# Altium footprint library Tigershark3D.PcbLib: 54 footprints (part 4 of 4)
Each footprint in its own frame and in the unit in brackets; x right, y up, seen from the top. Pads: shape width x height; smd on the part's side, far side on the other; paste and mask are expansions set on the pad; w line width, h text height; cw(c..) or ccw(c..) is an arc to the next point about the centre after c.
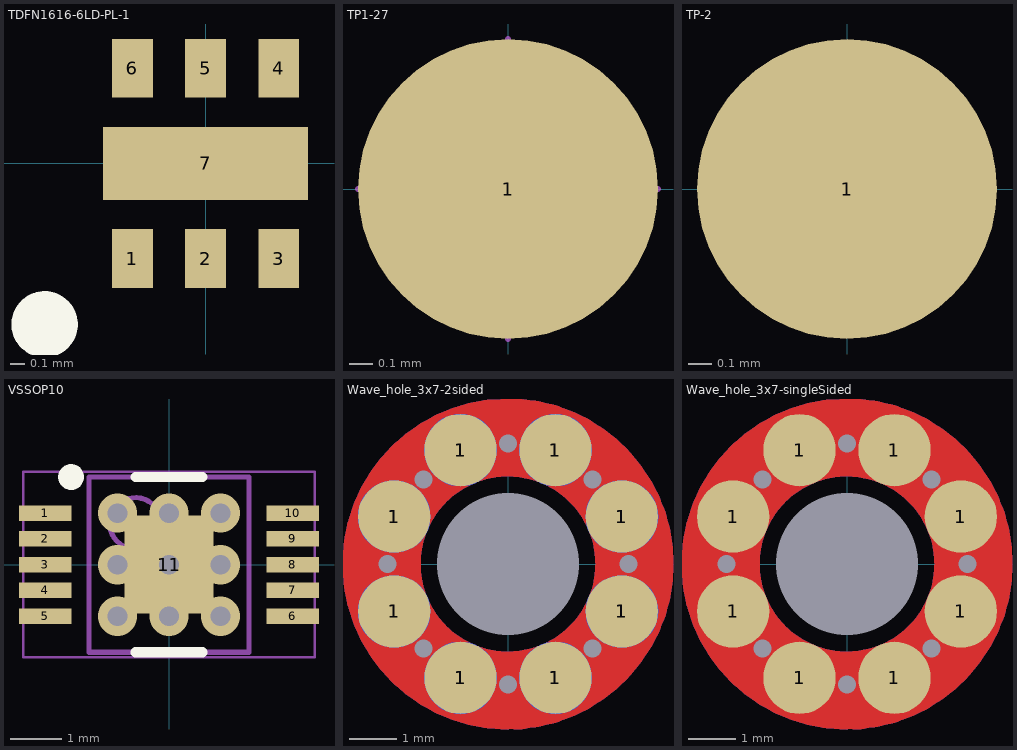
[diagram p3: the footprints below, top view; thin cyan lines are the x and y axes]

## TDFN1616-6LD-PL-1 [mm] "1.6mmx1.6mm"
pads (7):
  rect 0.28x0.4 smd paste+0 mask+0.13: 1(-0.5,-0.65) 2(0,-0.65) 3(0.5,-0.65) 4(0.5,0.65) 5(0,0.65) 6(-0.5,0.65)
  rect 1.4x0.5 smd paste-1 mask+0.07: 7(0,0)
Top Overlay:
  circle w0.254: c-1.1,-1.1 r0.1
Top Paste:
  rectangle: -0.65,-0.15 0,0.15
  region: 0.65,0.15 0.1,0.15 0.1,-0.15 0.65,-0.15
3D body: height 0.55, standoff 0.05, extent -0.799,-0.799 0.799,0.799

## TP1-27 [mm]
pads (1):
  rrect100% 1.27x1.27 smd: 1(0,0)
Mechanical 8:
  lines w0.025: -0.635,0 0.635,0 ; 0,-0.635 0,0.635
3D body: height 0.01, standoff 0, extent -0.635,-0.639 0.64,0.639

## TP-2 [mm]
pads (1):
  round 1.27 smd paste-2: 1(0,0)
3D body: height 0.03, standoff 0, extent -0.634,-0.635 0.635,0.635

## VSSOP10 [mm]
pads (11):
  rect 1.02x0.3 smd mask+0.102: 1(-2.4,1) 2(-2.4,0.5) 3(-2.4,0) 4(-2.4,-0.5) 5(-2.4,-1) 6(2.4,-1) 7(2.4,-0.5) 8(2.4,0) 9(2.4,0.5) 10(2.4,1)
  rect 1.73x1.9 smd: 11(0,0)
via 0,0 diameter 0.762 hole 0.381
via 1,0 diameter 0.762 hole 0.381
via 1,-1 diameter 0.762 hole 0.381
via 0,-1 diameter 0.762 hole 0.381
via -1,-1 diameter 0.762 hole 0.381
via -1,0 diameter 0.762 hole 0.381
via -1,1 diameter 0.762 hole 0.381
via 0,1 diameter 0.762 hole 0.381
via 1,1 diameter 0.762 hole 0.381
Top Overlay:
  circle w0.25: c-1.9,1.7 r0.125
  lines w0.2: -0.65,-1.7 0.65,-1.7 ; -0.65,1.7 0.65,1.7
Mechanical 13:
  circle w0.1: c-0.65,0.8 r0.5
  lines w0.1: -1.55,-1.7 -1.55,1.7 1.55,1.7 1.55,-1.7 -1.55,-1.7
Mechanical 15:
  lines w0.05: -2.825,-1.8 -2.825,1.8 2.825,1.8 2.825,-1.8 -2.825,-1.8
  lines w0.1: -0.5,0 0.5,0 ; 0,-0.5 0,0.5
3D body: height 1.09, standoff 0.02, extent -1.55,-1.7 1.55,1.7

## Wave_hole_3x7-2sided [mil]
pads (25):
  round 0 hole 118.11 unplated paste+0 mask-112: 0(0,0)
  round 0 hole 15 paste-20 mask-20: 1(-100,0) 1(-70,-70) 1(-70,70) 1(0,-100) 1(0,100) 1(70,-70) 1(70,70) 1(100,0)
  round 60 smd paste-5 mask+0: 1(-94.49,-39.37) 1(-94.49,39.37) 1(-39.37,-94.49) 1(-39.37,94.49) 1(39.37,-94.49) 1(39.37,94.49) 1(94.49,-39.37) 1(94.49,39.37)
  round 60 smd far side paste-5 mask+0: 1(-94.49,-39.37) 1(-94.49,39.37) 1(-39.37,-94.49) 1(-39.37,94.49) 1(39.37,-94.49) 1(39.37,94.49) 1(94.49,-39.37) 1(94.49,39.37)
Top Layer:
  circle w64.96: c0,0 r105
Bottom Layer:
  circle w64.96: c0,0 r105
3D body: height 0, standoff 0, extent -105.3,-105.3 105.3,105.3

## Wave_hole_3x7-singleSided [mil]
pads (17):
  round 0 hole 118.11 unplated paste+0 mask-112: 0(0,0)
  round 0 hole 15 paste-20 mask-20: 1(-100,0) 1(-70,-70) 1(-70,70) 1(0,-100) 1(0,100) 1(70,-70) 1(70,70) 1(100,0)
  round 60 smd paste-5 mask+0: 1(-94.49,-39.37) 1(-94.49,39.37) 1(-39.37,-94.49) 1(-39.37,94.49) 1(39.37,-94.49) 1(39.37,94.49) 1(94.49,-39.37) 1(94.49,39.37)
Top Layer:
  circle w64.96: c0,0 r105
Bottom Layer:
  circle w64.96: c0,0 r105
3D body: height 0, standoff 0, extent -105.3,-105.3 105.3,105.3